# Altium schematic symbol library 5V 8 Channel Relay.SchLib: 1 symbol
Pins are listed as number, name and electrical type; pins without a type are passive.

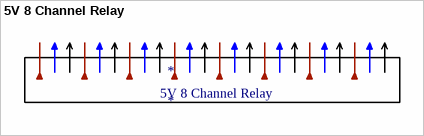
[diagram p0: symbol 5V 8 Channel Relay]

## 5V 8 Channel Relay
designator *